# Altium schematic symbol library ESC.SchLib: 6 symbols
Pins are listed as number, name and electrical type; pins without a type are passive.

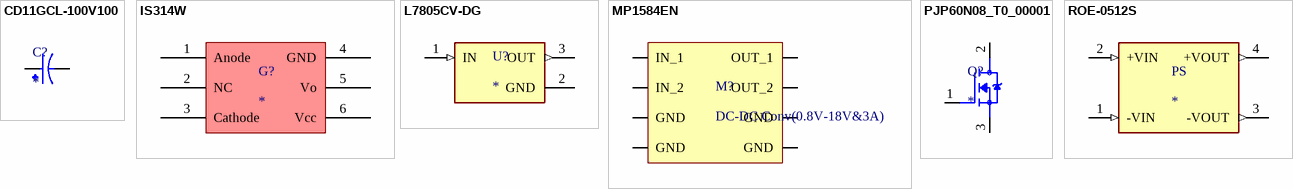
[diagram p0: symbols CD11GCL-100V100 to ROE-0512S]

## CD11GCL-100V100
designator C?
CAP.EL.100uF 100V 10x16 5MM 105C L.ESR 12000H TB; MF: Panasonic; MP: EEU-FC2A101L; Check_prices: https://www.snapeda.com/parts/EEU-FC2A101L/Panasonic/view-part/?ref=eda; Availability: In Stock; Price: None; Package: RADIAL-2 Panasonic; Value: *; Purchase-URL: https://pricing.snapeda.com/search/part/EEU-FC2A101L/?ref=eda; SnapEDA_Link: https://www.snapeda.com/parts/EEU-FC2A101L/Panasonic/view-part/?ref=snap
footprint CAPPRD500W60D1000H3000
pins: N, P

## IS314W
designator G?
IC-314 OPTO GATE DRVR 5KV SO6 STRETCHED
footprint SOIC127P1150X360-6N
pins: 1 Anode, 2 NC, 3 Cathode, 4 GND, 5 Vo, 6 Vcc

## L7805CV-DG
designator U?
Linear Voltage Regulator IC Positive Fixed 1 Output 1.5A TO-220; MF: STMicroelectronics; MP: L7805CV-DG; Value: *; Availability: In Stock; Price: None; SnapEDA_Link: https://www.snapeda.com/parts/L7805CV-DG/STMicroelectronics/view-part/?ref=snap; Check_prices: https://www.snapeda.com/parts/L7805CV-DG/STMicroelectronics/view-part/?ref=eda; Purchase-URL: https://pricing.snapeda.com/search/part/L7805CV-DG/?ref=eda; Package: TO-220 STMicroelectronics
footprint TO255P1040X460X2890-3
pins: 1 IN (in), 2 GND (power), 3 OUT (out)

## MP1584EN
designator M?, comment DC-DC Conv(0.8V-18V&3A)
footprint mp
pins: 1 IN_1, 2 IN_2, 3 OUT_1, 4 OUT_2, 5 GND, 6 GND, 7 GND, 8 GND

## PJP60N08_T0_00001
designator Q?
MOSFET DIS.60A 80V N-CH TO220AB SWITCH THT; MP: IRF520NPBF; MF: Infineon Technologies; Package: TO-220AB International Rectifier; Price: None; Availability: Unavailable; Value: *; SnapEDA_Link: https://www.snapeda.com/parts/IRF520NPBF/Infineon%20Technologies/view-part/106191/?ref=snap
footprint TO-220-3
pins: 1 G, 2 D, 3 S

## ROE-0512S
designator PS
1W DC/DC-Converter 'ECONOLINE' SIP4 1kV unreg; MP: ROE-0512S; MF: Recom Power; SnapEDA_Link: https://www.snapeda.com/parts/ROE-0512S/Recom%20Power/view-part/2768892/?ref=snap; Price: None; Availability: Unavailable; Package: SIP-4 Recom Power; Value: *
footprint CONV_ROE-0512S
pins: 1 -VIN (in), 2 +VIN (in), 3 -VOUT (out), 4 +VOUT (out)